# Altium schematic symbol library symbols.SchLib: 52 symbols
Pins are listed as number, name and electrical type; pins without a type are passive.

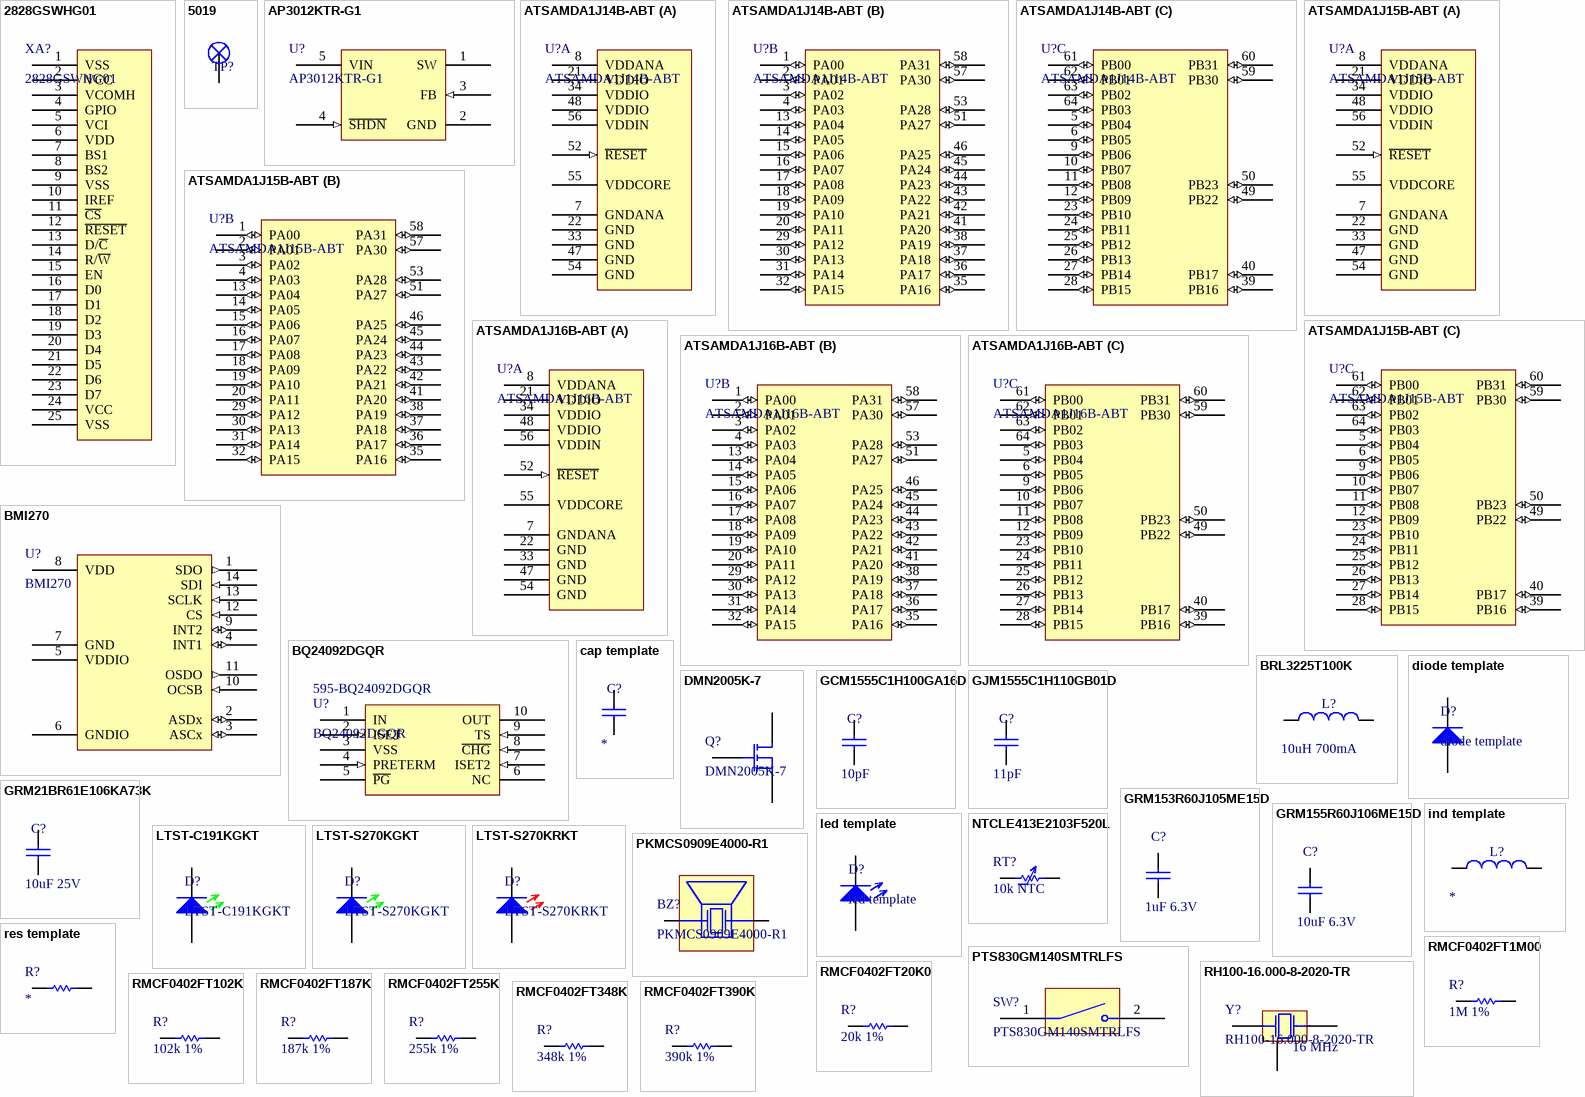
[diagram p0: symbols 2828GSWHG01 to RMCF0402FT390K]

## 2828GSWHG01
designator XA?  (no BOM)
1.5 in. monochrome 128x128 OLED display module
footprint 2828GSWHG01 OLED (1.5 in. 2828GSWHG01 OLED display module)
pins: 1 VSS, 2 VCC, 3 VCOMH, 4 GPIO, 5 VCI, 6 VDD, 7 BS1, 8 BS2, 9 VSS, 10 IREF, 11 ~{CS}, 12 ~{RESET}, 13 D/~{C}, 14 R/~{W}, 15 EN, 16 D0, 17 D1, 18 D2, 19 D3, 20 D4, 21 D5, 22 D6, 23 D7, 24 VCC, 25 VSS

## 5019
designator TP?  (value not drawn)
PC Test Point, Miniature Phosphor Bronze Silver Plating Surface Mount Mounting Type; Supplier 1: Newark; Supplier Part Number 1: 06W4636
footprint 5019 Test Point (PC Test Point, Miniature Phosphor Bronze Silver Plating Surface Mount Mounting Type)
pins: 1

## AP3012KTR-G1
designator U?
Boost Switching Regulator IC Positive Adjustable 1.25V 1 Output 500mA (Switch) SC-74A, SOT-753; Supplier 1: Arrow Electronics; Supplier Part Number 1: AP3012KTR-G1
footprint AP3012KTR-G1 (SOT23, 5-Leads, Body 2.92x2.80mm, Pitch 0.95mm, IPC Medium Density)
pins: 1 SW (power), 2 GND (power), 3 FB (in), 4 ~{SHDN} (in), 5 VIN (power)

## ATSAMDA1J14B-ABT
designator U?
ARM® Cortex®-M0+ series Microcontroller IC 32-Bit Single-Core 48MHz 16KB (16K x 8) FLASH 64-TQFP (10x10); Supplier 1: Arrow Electronics; Supplier Part Number 1: ATSAMDA1J14B-ABT
footprint ATSAMDA1J15B-ABT (TSQFP, 64-Leads, Body 10.00x10.00mm, Pitch 0.50mm, IPC Medium Density)
part A pins: 7 GNDANA (power), 8 VDDANA (power), 21 VDDIO (power), 22 GND (power), 33 GND (power), 34 VDDIO (power), 47 GND (power), 48 VDDIO (power), 52 ~{RESET} (in), 54 GND (power), 55 VDDCORE (power), 56 VDDIN (power)
part B pins: 1 PA00 (io), 2 PA01 (io), 3 PA02 (io), 4 PA03 (io), 13 PA04 (io), 14 PA05 (io), 15 PA06 (io), 16 PA07 (io), 17 PA08 (io), 18 PA09 (io), 19 PA10 (io), 20 PA11 (io), 29 PA12 (io), 30 PA13 (io), 31 PA14 (io), 32 PA15 (io), 35 PA16 (io), 36 PA17 (io), 37 PA18 (io), 38 PA19 (io), 41 PA20 (io), 42 PA21 (io), 43 PA22 (io), 44 PA23 (io), 45 PA24 (io), 46 PA25 (io), 51 PA27 (io), 53 PA28 (io), 57 PA30 (io), 58 PA31 (io)
part C pins: 5 PB04 (io), 6 PB05 (io), 9 PB06 (io), 10 PB07 (io), 11 PB08 (io), 12 PB09 (io), 23 PB10 (io), 24 PB11 (io), 25 PB12 (io), 26 PB13 (io), 27 PB14 (io), 28 PB15 (io), 39 PB16 (io), 40 PB17 (io), 49 PB22 (io), 50 PB23 (io), 59 PB30 (io), 60 PB31 (io), 61 PB00 (io), 62 PB01 (io), 63 PB02 (io), 64 PB03 (io)

## ATSAMDA1J15B-ABT
designator U?
ARM® Cortex®-M0+ series Microcontroller IC 32-Bit 48MHz 32KB (32K x 8) FLASH 64-TQFP (10x10); Supplier 1: Newark; Supplier Part Number 1: 23AC2371
footprint ATSAMDA1J15B-ABT (TSQFP, 64-Leads, Body 10.00x10.00mm, Pitch 0.50mm, IPC Medium Density)
part A pins: 7 GNDANA (power), 8 VDDANA (power), 21 VDDIO (power), 22 GND (power), 33 GND (power), 34 VDDIO (power), 47 GND (power), 48 VDDIO (power), 52 ~{RESET} (in), 54 GND (power), 55 VDDCORE (power), 56 VDDIN (power)
part B pins: 1 PA00 (io), 2 PA01 (io), 3 PA02 (io), 4 PA03 (io), 13 PA04 (io), 14 PA05 (io), 15 PA06 (io), 16 PA07 (io), 17 PA08 (io), 18 PA09 (io), 19 PA10 (io), 20 PA11 (io), 29 PA12 (io), 30 PA13 (io), 31 PA14 (io), 32 PA15 (io), 35 PA16 (io), 36 PA17 (io), 37 PA18 (io), 38 PA19 (io), 41 PA20 (io), 42 PA21 (io), 43 PA22 (io), 44 PA23 (io), 45 PA24 (io), 46 PA25 (io), 51 PA27 (io), 53 PA28 (io), 57 PA30 (io), 58 PA31 (io)
part C pins: 5 PB04 (io), 6 PB05 (io), 9 PB06 (io), 10 PB07 (io), 11 PB08 (io), 12 PB09 (io), 23 PB10 (io), 24 PB11 (io), 25 PB12 (io), 26 PB13 (io), 27 PB14 (io), 28 PB15 (io), 39 PB16 (io), 40 PB17 (io), 49 PB22 (io), 50 PB23 (io), 59 PB30 (io), 60 PB31 (io), 61 PB00 (io), 62 PB01 (io), 63 PB02 (io), 64 PB03 (io)

## ATSAMDA1J16B-ABT
designator U?
ARM® Cortex®-M0+ series Microcontroller IC 32-Bit Single-Core 48MHz 64KB (64K x 8) FLASH 64-TQFP (10x10); Supplier 1: Newark; Supplier Part Number 1: 23AC2373
footprint ATSAMDA1J15B-ABT (TSQFP, 64-Leads, Body 10.00x10.00mm, Pitch 0.50mm, IPC Medium Density)
part A pins: 7 GNDANA (power), 8 VDDANA (power), 21 VDDIO (power), 22 GND (power), 33 GND (power), 34 VDDIO (power), 47 GND (power), 48 VDDIO (power), 52 ~{RESET} (in), 54 GND (power), 55 VDDCORE (power), 56 VDDIN (power)
part B pins: 1 PA00 (io), 2 PA01 (io), 3 PA02 (io), 4 PA03 (io), 13 PA04 (io), 14 PA05 (io), 15 PA06 (io), 16 PA07 (io), 17 PA08 (io), 18 PA09 (io), 19 PA10 (io), 20 PA11 (io), 29 PA12 (io), 30 PA13 (io), 31 PA14 (io), 32 PA15 (io), 35 PA16 (io), 36 PA17 (io), 37 PA18 (io), 38 PA19 (io), 41 PA20 (io), 42 PA21 (io), 43 PA22 (io), 44 PA23 (io), 45 PA24 (io), 46 PA25 (io), 51 PA27 (io), 53 PA28 (io), 57 PA30 (io), 58 PA31 (io)
part C pins: 5 PB04 (io), 6 PB05 (io), 9 PB06 (io), 10 PB07 (io), 11 PB08 (io), 12 PB09 (io), 23 PB10 (io), 24 PB11 (io), 25 PB12 (io), 26 PB13 (io), 27 PB14 (io), 28 PB15 (io), 39 PB16 (io), 40 PB17 (io), 49 PB22 (io), 50 PB23 (io), 59 PB30 (io), 60 PB31 (io), 61 PB00 (io), 62 PB01 (io), 63 PB02 (io), 64 PB03 (io)

## BMI270
designator U?
Accelerometer, Gyroscope, 6 Axis Sensor I²C, SPI Output; Supplier 1: RSComponents; Supplier Part Number 1: 2457369P
footprint BMI270 (PQFN, 14-Leads, Body 3.00x2.50mm, Pitch 0.50mm, IPC Medium Density)
pins: 1 SDO (out), 2 ASDx (io), 3 ASCx (io), 4 INT1 (io), 5 VDDIO (power), 6 GNDIO (power), 7 GND (power), 8 VDD (power), 9 INT2 (io), 10 OCSB (in), 11 OSDO (out), 12 CS (in), 13 SCLK (in), 14 SDI (in)

## BQ24092DGQR
designator U?  Supplier Part Number 1: 595-BQ24092DGQR
Charger IC Lithium Ion/Polymer 10-HVSSOP; Supplier 1: Mouser
footprint BQ24095DGQR (Charger IC Lithium Ion/Polymer 10-HVSSOP)
pins: 1 IN (power), 2 ISET (in), 3 VSS (power), 4 PRETERM (in), 5 ~{PG} (oc), 6 NC, 7 ISET2 (in), 8 ~{CHG} (in), 9 TS (in), 10 OUT (power)

## BRL3225T100K
designator L?  value 10uH 700mA  (hidden comment: BRL3225T100K)
10 µH Unshielded Drum Core, Wirewound Inductor 700 mA 420mOhm Max 1210 (3225 Metric); Supplier 1: Arrow Electronics; Supplier Part Number 1: BRL3225T100K
footprint BRL3225T100K (Chip Inductor, 2-Leads, Body 3.20x2.50mm, IPC Medium Density)
pins: 1, 2

## cap template
designator C?  (value not drawn)
Capacitor schematic symbol; Value: *
pins: 1, 2

## diode template
designator D?
Diode symbol
pins: 1, 2

## DMN2005K-7
designator Q?
N-Channel 20 V 300mA (Ta) 350mW (Ta) Surface Mount SOT-23-3; Supplier 1: Arrow Electronics; Supplier Part Number 1: DMN2005K-7
footprint DMN2005K-7 (SOT23, 3-Leads, Body 2.90x2.40mm, Pitch 0.90mm, IPC Medium Density)
pins: D, G, S

## GCM1555C1H100GA16D
designator C?  value 10pF  (hidden comment: GCM1555C1H100GA16D)
10 pF ±2% 50V Ceramic Capacitor C0G, NP0 0402 (1005 Metric); Supplier 1: Arrow Electronics; Supplier Part Number 1: GCM1555C1H100GA16D
footprint GRM155 0402 Capacitor (Chip Capacitor, 2-Leads, Body 1.00x0.50mm, IPC Medium Density)
pins: 1, 2

## GJM1555C1H110GB01D
designator C?  value 11pF  (hidden comment: GJM1555C1H110GB01D)
11 pF ±2% 50V Ceramic Capacitor C0G, NP0 0402 (1005 Metric); Supplier 1: Arrow Electronics; Supplier Part Number 1: GJM1555C1H110GB01D
footprint GRM155 0402 Capacitor (Chip Capacitor, 2-Leads, Body 1.00x0.50mm, IPC Medium Density)
pins: 1, 2

## GRM21BR61E106KA73K
designator C?  value 10uF 25V  (hidden comment: GRM21BR61E106KA73K)
10 µF ±10% 25V Ceramic Capacitor X5R 0805 (2012 Metric); Supplier 1: Arrow Electronics; Supplier Part Number 1: GRM21BR61E106KA73K
footprint GRM21 0805 Capacitor (Chip Capacitor, 2-Leads, Body 2.00x1.25mm, IPC Medium Density)
pins: 1, 2

## GRM153R60J105ME15D
designator C?  value 1uF 6.3V  (hidden comment: GRM153R60J105ME15D)
1 µF ±20% 6.3V Ceramic Capacitor X5R 0402 (1005 Metric)
footprint GRM155 0402 Capacitor (Chip Capacitor, 2-Leads, Body 1.00x0.50mm, IPC Medium Density)
pins: 1, 2

## GRM155R60J106ME15D
designator C?  value 10uF 6.3V  (hidden comment: GRM155R60J106ME15D)
10 µF ±20% 6.3V Ceramic Capacitor X5R 0402 (1005 Metric)
footprint GRM155 0402 Capacitor (Chip Capacitor, 2-Leads, Body 1.00x0.50mm, IPC Medium Density)
pins: 1, 2

## ind template
designator L?  (value not drawn)
Inductor schematic symbol; Value: *
pins: 1, 2

## led template
designator D?
LED symbol
pins: 1, 2

## LTST-C191KGKT
designator D?
Green 571nm LED Indication - Discrete 2V 0603 (1608 Metric); Supplier 1: Arrow Electronics; Supplier Part Number 1: LTST-C191KGKT
footprint LTST-C191KGKT (Green 571nm LED Indication - Discrete 2V 0603 (1608 Metric))
pins: 1, 2

## LTST-S270KGKT
designator D?
Green 571nm LED Indication - Discrete 2V 0603 (1608 Metric); Supplier 1: RSComponents; Supplier Part Number 1: 6921219
footprint LTST-S270KRKT (Chip Diode, 2-Leads, Body 1.65x0.68mm, IPC Medium Density)
pins: 1, 2

## LTST-S270KRKT
designator D?
Red 631nm LED Indication - Discrete 2V 0603 (1608 Metric); Supplier 1: Arrow Electronics; Supplier Part Number 1: LTST-S270KRKT
footprint LTST-S270KRKT (Chip Diode, 2-Leads, Body 1.65x0.68mm, IPC Medium Density)
pins: 1, 2

## NTCLE413E2103F520L
designator RT?  value 10k NTC  (hidden comment: NTCLE413E2103F520L)
NTC Thermistor 10k Bead; Supplier 1: Arrow Electronics; Supplier Part Number 1: NTCLE413E2103F520L
footprint NTCLE413E2103F520L (NTC thermistor, 2-Leads, through-hole)
pins: 1, 2

## PKMCS0909E4000-R1
designator BZ?
Buzzers Transducer, Externally Driven Piezo 1.5 V 4kHz 65dB @ 1.5V, 10cm Surface Mount Solder Pads; Supplier 1: Arrow Electronics; Supplier Part Number 1: PKMCS0909E4000-R1
footprint PKMCS0909E4000-R1 (Piezoelectric Buzzer, 2-Leads, Body 9.00x9.00mm, IPC Medium Density)
pins: 1, 2

## PTS830GM140SMTRLFS
designator SW?
Tactile Switch SPST-NO Top Actuated Surface Mount; Supplier 1: Arrow Electronics; Supplier Part Number 1: PTS830GM140SMTRLFS
footprint PTS830GM140SMTRLFS (Tactile Switch SPST-NO Top Actuated Surface Mount)
pins: 1, 2

## res template
designator R?  (value not drawn)
Resistor schematic symbol; Value: *
pins: 1, 2

## RH100-16.000-8-2020-TR
designator Y?  value 16 MHz
16 MHz ±20ppm Crystal 8pF 70 Ohms 4-SMD, No Lead; Supplier 1: Digi-Key; Supplier Part Number 1: 2151-RH100-16.000-8-2020-TRCT-ND
footprint RH100-16.000-8-2020-TR (16 MHz ±20ppm Crystal 8pF 70 Ohms 4-SMD, No Lead)
pins: 1 X1, 2 GND, 3 X2

## RMCF0402FT1M00
designator R?  value 1M 1%  (hidden comment: RMCF0402FT1M00)
1 MOhms ±1% 0.063W, 1/16W Chip Resistor 0402 (1005 Metric) Automotive AEC-Q200 Thick Film; Supplier 1: Arrow Electronics; Supplier Part Number 1: RMCF0402FT1M00
footprint RMCF0402 Resistor Package (Chip Resistor, 2-Leads, Body 0.99x0.51mm, IPC Medium Density)
pins: 1, 2

## RMCF0402FT20K0
designator R?  value 20k 1%  (hidden comment: RMCF0402FT20K0)
20 kOhms ±1% 0.063W, 1/16W Chip Resistor 0402 (1005 Metric) Automotive AEC-Q200 Thick Film; Supplier 1: Arrow Electronics; Supplier Part Number 1: RMCF0402FT20K0
footprint RMCF0402 Resistor Package (Chip Resistor, 2-Leads, Body 0.99x0.51mm, IPC Medium Density)
pins: 1, 2

## RMCF0402FT102K
designator R?  value 102k 1%  (hidden comment: RMCF0402FT102K)
102 kOhms ±1% 0.063W, 1/16W Chip Resistor 0402 (1005 Metric) Automotive AEC-Q200 Thick Film; Supplier 1: Arrow Electronics; Supplier Part Number 1: RMCF0402FT102K
footprint RMCF0402 Resistor Package (Chip Resistor, 2-Leads, Body 0.99x0.51mm, IPC Medium Density)
pins: 1, 2

## RMCF0402FT187K
designator R?  value 187k 1%  (hidden comment: RMCF0402FT187K)
187 kOhms ±1% 0.063W, 1/16W Chip Resistor 0402 (1005 Metric) Automotive AEC-Q200 Thick Film; Supplier 1: Digi-Key; Supplier Part Number 1: RMCF0402FT187KCT-ND
footprint RMCF0402 Resistor Package (Chip Resistor, 2-Leads, Body 0.99x0.51mm, IPC Medium Density)
pins: 1, 2

## RMCF0402FT255K
designator R?  value 255k 1%  (hidden comment: RMCF0402FT255K)
255 kOhms ±1% 0.063W, 1/16W Chip Resistor 0402 (1005 Metric) Automotive AEC-Q200 Thick Film; Supplier 1: Arrow Electronics; Supplier Part Number 1: RMCF0402FT255K
footprint RMCF0402 Resistor Package (Chip Resistor, 2-Leads, Body 0.99x0.51mm, IPC Medium Density)
pins: 1, 2

## RMCF0402FT348K
designator R?  value 348k 1%  (hidden comment: RMCF0402FT348K)
348 kOhms ±1% 0.063W, 1/16W Chip Resistor 0402 (1005 Metric) Automotive AEC-Q200 Thick Film; Supplier 1: Arrow Electronics; Supplier Part Number 1: RMCF0402FT348K
footprint RMCF0402 Resistor Package (Chip Resistor, 2-Leads, Body 0.99x0.51mm, IPC Medium Density)
pins: 1, 2

## RMCF0402FT390K
designator R?  value 390k 1%  (hidden comment: RMCF0402FT390K)
390 kOhms ±1% 0.063W, 1/16W Chip Resistor 0402 (1005 Metric) Automotive AEC-Q200 Thick Film; Supplier 1: Arrow Electronics; Supplier Part Number 1: RMCF0402FT390K
footprint RMCF0402 Resistor Package (Chip Resistor, 2-Leads, Body 0.99x0.51mm, IPC Medium Density)
pins: 1, 2

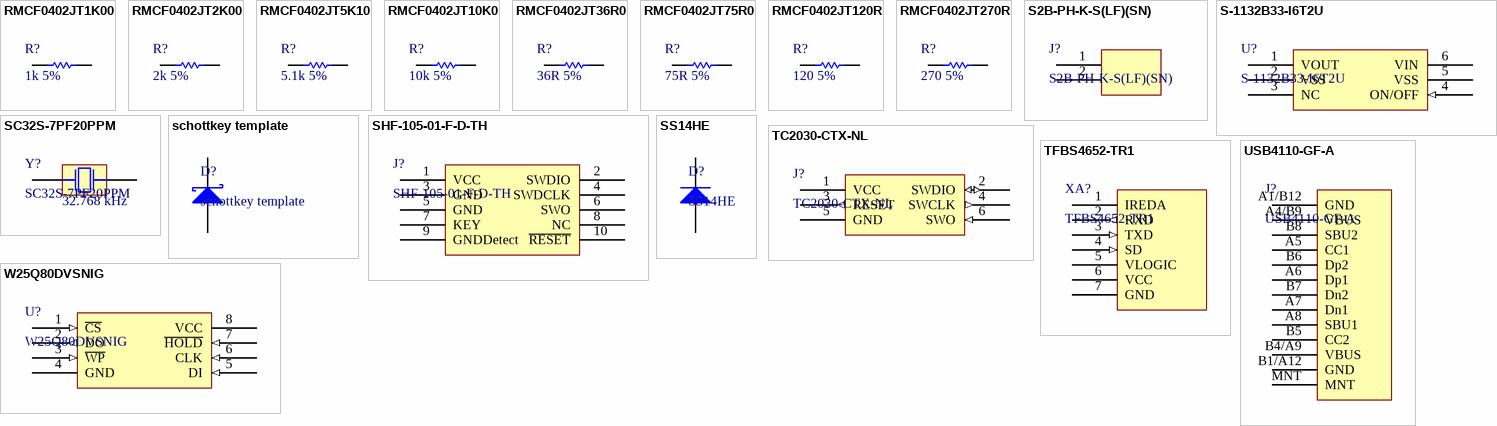
[diagram p1: symbols RMCF0402JT1K00 to W25Q80DVSNIG]

## RMCF0402JT1K00
designator R?  value 1k 5%  (hidden comment: RMCF0402JT1K00)
1 kOhms ±5% 0.063W, 1/16W Chip Resistor 0402 (1005 Metric) Automotive AEC-Q200 Thick Film; Supplier 1: Arrow Electronics; Supplier Part Number 1: RMCF0402JT1K00
footprint RMCF0402 Resistor Package (Chip Resistor, 2-Leads, Body 0.99x0.51mm, IPC Medium Density)
pins: 1, 2

## RMCF0402JT2K00
designator R?  value 2k 5%  (hidden comment: RMCF0402JT2K00)
2 kOhms ±5% 0.063W, 1/16W Chip Resistor 0402 (1005 Metric) Automotive AEC-Q200 Thick Film; Supplier 1: Arrow Electronics; Supplier Part Number 1: RMCF0402JT2K00
footprint RMCF0402 Resistor Package (Chip Resistor, 2-Leads, Body 0.99x0.51mm, IPC Medium Density)
pins: 1, 2

## RMCF0402JT5K10
designator R?  value 5.1k 5%  (hidden comment: RMCF0402JT5K10)
5.1 kOhms ±5% 0.063W, 1/16W Chip Resistor 0402 (1005 Metric) Automotive AEC-Q200 Thick Film; Supplier 1: Arrow Electronics; Supplier Part Number 1: RMCF0402JT5K10
footprint RMCF0402 Resistor Package (Chip Resistor, 2-Leads, Body 0.99x0.51mm, IPC Medium Density)
pins: 1, 2

## RMCF0402JT10K0
designator R?  value 10k 5%  (hidden comment: RMCF0402JT10K0)
10 kOhms ±5% 0.063W, 1/16W Chip Resistor 0402 (1005 Metric) Automotive AEC-Q200 Thick Film; Supplier 1: Arrow Electronics; Supplier Part Number 1: RMCF0402JT10K0
footprint RMCF0402 Resistor Package (Chip Resistor, 2-Leads, Body 0.99x0.51mm, IPC Medium Density)
pins: 1, 2

## RMCF0402JT36R0
designator R?  value 36R 5%  (hidden comment: RMCF0402JT36R0)
36 Ohms ±5% 0.063W, 1/16W Chip Resistor 0402 (1005 Metric) Automotive AEC-Q200 Thick Film; Supplier 1: Digi-Key; Supplier Part Number 1: 738-RMCF0402JT36R0CT-ND
footprint RMCF0402 Resistor Package (Chip Resistor, 2-Leads, Body 0.99x0.51mm, IPC Medium Density)
pins: 1, 2

## RMCF0402JT75R0
designator R?  value 75R 5%  (hidden comment: RMCF0402JT75R0)
75 Ohms ±5% 0.063W, 1/16W Chip Resistor 0402 (1005 Metric) Automotive AEC-Q200 Thick Film; Supplier 1: Arrow Electronics; Supplier Part Number 1: RMCF0402JT75R0
footprint RMCF0402 Resistor Package (Chip Resistor, 2-Leads, Body 0.99x0.51mm, IPC Medium Density)
pins: 1, 2

## RMCF0402JT120R
designator R?  value 120 5%  (hidden comment: RMCF0402JT120R)
120 Ohms ±5% 0.063W, 1/16W Chip Resistor 0402 (1005 Metric) Automotive AEC-Q200 Thick Film; Supplier 1: Arrow Electronics; Supplier Part Number 1: RMCF0402JT120R
footprint RMCF0402 Resistor Package (Chip Resistor, 2-Leads, Body 0.99x0.51mm, IPC Medium Density)
pins: 1, 2

## RMCF0402JT270R
designator R?  value 270 5%  (hidden comment: RMCF0402JT270R)
270 Ohms ±5% 0.063W, 1/16W Chip Resistor 0402 (1005 Metric) Automotive AEC-Q200 Thick Film; Supplier 1: Arrow Electronics; Supplier Part Number 1: RMCF0402JT270R
footprint RMCF0402 Resistor Package (Chip Resistor, 2-Leads, Body 0.99x0.51mm, IPC Medium Density)
pins: 1, 2

## S2B-PH-K-S(LF)(SN)
designator J?
Connector Header Through Hole, Right Angle 2 position 0.079" (2.00mm); Supplier 1: RSComponents; Supplier Part Number 1: 8201494
footprint S2B-PH-K-S(LF)(SN) (Connector Header Through Hole, Right Angle 2 position 0.079" (2.00mm))
pins: 1, 2

## S-1132B33-I6T2U
designator U?
Linear Voltage Regulator IC Positive Fixed 1 Output 300mA SNT-6A; Supplier 1: Digi-Key; Supplier Part Number 1: 1662-1266-1-ND
footprint S-1132B33-I6T2U (Linear Voltage Regulator IC Positive Fixed 1 Output 300mA SNT-6A)
pins: 1 VOUT (power), 2 VSS (power), 3 NC, 4 ON/OFF (in), 5 VSS (power), 6 VIN (power)

## SC32S-7PF20PPM
designator Y?  value 32.768 kHz
32.768 kHz ±20ppm Crystal 7pF 70 kOhms 2-SMD, No Lead; Supplier 1: Mouser; Supplier Part Number 1: 628-SC32S-7PF20PPM
footprint SC32S-7PF20PPM (32.768 kHz ±20ppm Crystal 7pF 70 kOhms 2-SMD, No Lead)
pins: 1 X1, 2 X2

## schottkey template
designator D?
Schottkey diode symbol
pins: 1, 2

## SHF-105-01-F-D-TH
designator J?
Connector Header Through Hole 10 position 0.050" (1.27mm); Supplier 1: Newark; Supplier Part Number 1: 30AJ7351
footprint SHF-105-01-F-D-TH (Connector Header Through Hole 10 position 0.050" (1.27mm))
pins: 1 VCC, 2 SWDIO, 3 GND, 4 SWDCLK, 5 GND, 6 SWO, 7 KEY, 8 NC, 9 GNDDetect, 10 ~{RESET}

## SS14HE
designator D?
Diode Schottky 40 V 1A Surface Mount SOD-323HE; Supplier 1: Newark; Supplier Part Number 1: 74AC1975
footprint SS14HE (SODFL, 2-Leads, Body 1.27x2.50mm, IPC Medium Density)
pins: 1, 2

## TC2030-CTX-NL
designator J?  (no BOM)
6-Pin “No Legs” Cable with 10-pin micro-connector for Cortex processors
footprint TC2030-CTX-NL (6-Pin “No Legs” Cable with 10-pin micro-connector for Cortex processors)
pins: 1 VCC (power), 2 SWDIO (io), 3 RESET (out), 4 SWCLK (out), 5 GND (power), 6 SWO (in)

## TFBS4652-TR1
designator XA?
115.2kbs (SIR) IRDA Transceiver Side View; Supplier 1: Arrow Electronics; Supplier Part Number 1: TFBS4652-TR1
footprint TFBS4652-TR1 (115.2kbs (SIR) IRDA Transceiver Side View)
pins: 1 IREDA, 2 RXD (out), 3 TXD (in), 4 SD (in), 5 VLOGIC (power), 6 VCC (power), 7 GND (power)

## USB4110-GF-A
designator J?
USB-C (USB TYPE-C) USB 2.0 Receptacle Connector 24 (16+8 Dummy) Position Surface Mount, Right Angle; Supplier 1: Newark; Supplier Part Number 1: 71AJ9394
footprint USB4110-GF-A (USB-C (USB TYPE-C) USB 2.0 Receptacle Connector 24 (16+8 Dummy) Position Surface Mount, Right Angle)
pins: A1/B12 GND (power), A4/B9 VBUS (power), A5 CC1, A6 Dp1, A7 Dn1, A8 SBU1, B1/A12 GND (power), B4/A9 VBUS (power), B5 CC2, B6 Dp2, B7 Dn2, B8 SBU2, MNT

## W25Q80DVSNIG
designator U?
FLASH - NOR Memory IC 8Mb (1M x 8) SPI - Quad I/O 104 MHz 8-SOIC; Supplier 1: Arrow Electronics; Supplier Part Number 1: W25Q80DVSNIG
footprint W25Q80DVSNIG (SOIC, 8-Leads, Body 4.90x3.90mm, Pitch 1.27mm, IPC Medium Density)
pins: 1 ~{CS} (in), 2 DO (out), 3 ~{WP} (in), 4 GND (power), 5 DI (in), 6 CLK (in), 7 ~{HOLD} (in), 8 VCC (power)